# EAGLE library part DIP2_16PIN (library mtoriginal)
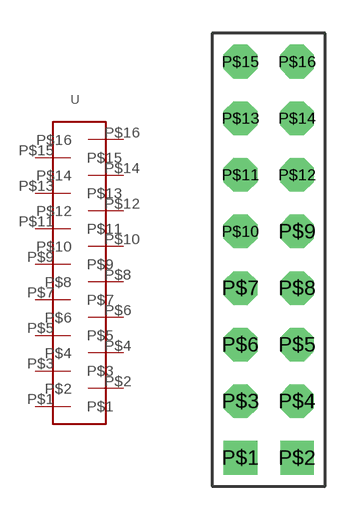
[diagram p4: symbol with the pads of DIP2_16PIN; footprint DIP2_16PIN]

Designator prefix -

## DIP2_16PIN  [DIP2_16PIN]
P$1  P$1
P$2  P$2
P$3  P$3
P$4  P$4
P$5  P$5
P$6  P$6
P$7  P$7
P$8  P$8
P$9  P$9
P$10  P$10
P$11  P$11
P$12  P$12
P$13  P$13
P$14  P$14
P$15  P$15
P$16  P$16

## Footprint DIP2_16PIN (pad centres in mm)
drill 1 square: P$1 0,0; P$2 2.54,0
drill 1 octagon: P$3 0,2.54; P$4 2.54,2.54; P$5 2.54,5.08; P$6 0,5.08; P$7 0,7.62; P$8 2.54,7.62; P$9 2.54,10.16; P$10 0,10.16; P$11 0,12.7; P$12 2.54,12.7; P$13 0,15.24; P$14 2.54,15.24; P$15 0,17.78; P$16 2.54,17.78